# EAGLE library part AD421 (library analog-devices)
Loop-Powered 4 mA to 20 mA DAC Source: http://www.analog.com/UploadedFiles/Data_Sheets/409317160AD421_c.pdf
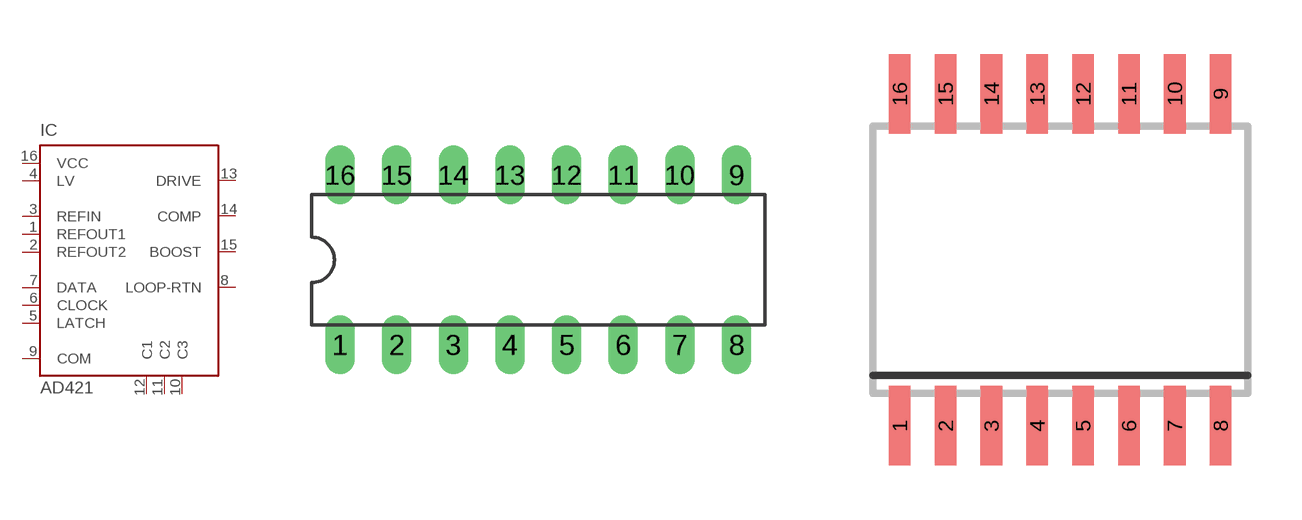
[diagram p119: symbol with the pads of DIL16; footprints DIL16, SO-16W]

Designator prefix IC

## AD421BN (MF: ALTERA CORPORATION; MPN: AD421BN; OC_FARNELL: 1438368; OC_NEWARK: 52F8047)  [DIL16]
1  REFOUT1  out
2  REFOUT2  out
3  REFIN  in
4  LV  in
5  LATCH  in
6  CLOCK  in
7  DATA  in
8  LOOP-RTN  pas
9  COM  pwr
10  C3  pas
11  C2  pas
12  C1  pas
13  DRIVE  out
14  COMP  out
15  BOOST  oc
16  VCC  pwr

## AD421BR (MPN: AD421BR; OC_FARNELL: 1278822; OC_NEWARK: 52F8048)  [SO-16W]
Pads as for DIL16

## Footprint DIL16 (pad centres in mm)
Dual In Line Package
drill 0.813 long: 1 -8.89,-3.81; 2 -6.35,-3.81; 3 -3.81,-3.81; 4 -1.27,-3.81; 5 1.27,-3.81; 6 3.81,-3.81; 7 6.35,-3.81; 8 8.89,-3.81; 9 8.89,3.81; 10 6.35,3.81; 11 3.81,3.81; 12 1.27,3.81; 13 -1.27,3.81; 14 -3.81,3.81; 15 -6.35,3.81; 16 -8.89,3.81

## Footprint SO-16W (pad centres in mm)
16-Lead (Wide Body) Small Outline Package (R-16) Source: http://www.analog.com/UploadedFiles/Data_Sheets/409317160AD421_c.pdf
smd 0.6 x 2.2: 1 -4.445,-4.6; 2 -3.175,-4.6; 3 -1.905,-4.6; 4 -0.635,-4.6; 5 0.635,-4.6; 6 1.905,-4.6; 7 3.175,-4.6; 8 4.445,-4.6; 9 4.445,4.6; 10 3.175,4.6; 11 1.905,4.6; 12 0.635,4.6; 13 -0.635,4.6; 14 -1.905,4.6; 15 -3.175,4.6; 16 -4.445,4.6